# EAGLE library part LPC51U68 (library Transputer)
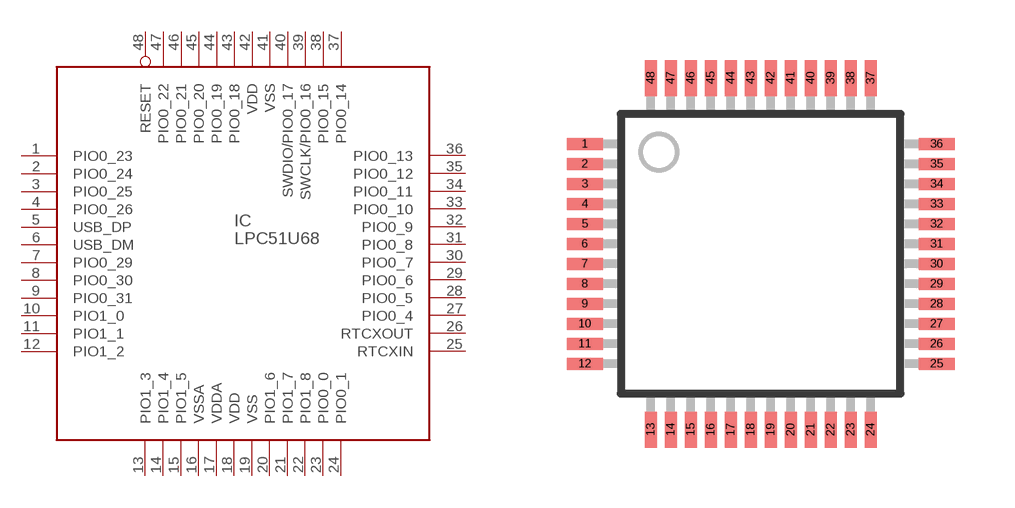
[diagram p5: symbol with the pads of LQFP48; footprint LQFP48]

Designator prefix IC

## LPC51U68  [LQFP48]
1  PIO0_23  pas
2  PIO0_24  pas
3  PIO0_25  pas
4  PIO0_26  pas
5  USB_DP  pas
6  USB_DM  pas
7  PIO0_29  pas
8  PIO0_30  pas
9  PIO0_31  pas
10  PIO1_0  pas
11  PIO1_1  pas
12  PIO1_2  pas
13  PIO1_3  pas
14  PIO1_4  pas
15  PIO1_5  pas
16  VSSA  pwr
17  VDDA  pwr
18  VDD  pwr
19  VSS  pwr
20  PIO1_6  pas
21  PIO1_7  pas
22  PIO1_8  pas
23  PIO0_0  pas
24  PIO0_1  pas
25  RTCXIN  pas
26  RTCXOUT  pas
27  PIO0_4  pas
28  PIO0_5  pas
29  PIO0_6  pas
30  PIO0_7  pas
31  PIO0_8  pas
32  PIO0_9  pas
33  PIO0_10  pas
34  PIO0_11  pas
35  PIO0_12  pas
36  PIO0_13  pas
37  PIO0_14  pas
38  PIO0_15  pas
39  SWCLK/PIO0_16  pas
40  SWDIO/PIO0_17  pas
41  VSS  pwr
42  VDD  pwr
43  PIO0_18  pas
44  PIO0_19  pas
45  PIO0_20  pas
46  PIO0_21  pas
47  PIO0_22  pas
48  RESET  in

## Footprint LQFP48 (pad centres in mm)
smd 0.9 x 0.3: 1 -4.4,2.75; 2 -4.4,2.25; 3 -4.4,1.75; 4 -4.4,1.25; 5 -4.4,0.75; 6 -4.4,0.25; 7 -4.4,-0.25; 8 -4.4,-0.75; 9 -4.4,-1.25; 10 -4.4,-1.75; 11 -4.4,-2.25; 12 -4.4,-2.75; 25 4.4,-2.75; 26 4.4,-2.25; 27 4.4,-1.75; 28 4.4,-1.25; 29 4.4,-0.75; 30 4.4,-0.25; 31 4.4,0.25; 32 4.4,0.75; 33 4.4,1.25; 34 4.4,1.75; 35 4.4,2.25; 36 4.4,2.75
smd 0.3 x 0.9: 13 -2.75,-4.4; 14 -2.25,-4.4; 15 -1.75,-4.4; 16 -1.25,-4.4; 17 -0.75,-4.4; 18 -0.25,-4.4; 19 0.25,-4.4; 20 0.75,-4.4; 21 1.25,-4.4; 22 1.75,-4.4; 23 2.25,-4.4; 24 2.75,-4.4; 37 2.75,4.4; 38 2.25,4.4; 39 1.75,4.4; 40 1.25,4.4; 41 0.75,4.4; 42 0.25,4.4; 43 -0.25,4.4; 44 -0.75,4.4; 45 -1.25,4.4; 46 -1.75,4.4; 47 -2.25,4.4; 48 -2.75,4.4